# Altium schematic symbol library STA309A.SchLib: 1 symbol
Pins are listed as number, name and electrical type; pins without a type are passive.

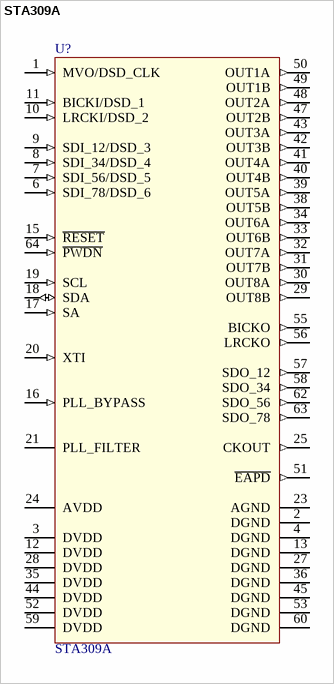
[diagram p0: symbol STA309A]

## STA309A
designator U?
Multi-channel digital audio processor with DDX®; Value: STA309A
footprint LQFP64_L (Thin QFP, 64-Leads, Body 10x10mm, Pitch 0.5mm, IPC High Density)
pins: 1 MVO/DSD_CLK (in), 2 DGND (power), 3 DVDD (power), 4 DGND (power), 6 SDI_78/DSD_6 (in), 7 SDI_56/DSD_5 (in), 8 SDI_34/DSD_4 (in), 9 SDI_12/DSD_3 (in), 10 LRCKI/DSD_2 (in), 11 BICKI/DSD_1 (in), 12 DVDD (power), 13 DGND (power), 15 ~{RESET} (in), 16 PLL_BYPASS (in), 17 SA (in), 18 SDA (io), 19 SCL (in), 20 XTI (in), 21 PLL_FILTER, 23 AGND (power), 24 AVDD (power), 25 CKOUT (out), 27 DGND (power), 28 DVDD (power), 29 OUT8B (out), 30 OUT8A (out), 31 OUT7B (out), 32 OUT7A (out), 33 OUT6B (out), 34 OUT6A (out), 35 DVDD (power), 36 DGND, 38 OUT5B (out), 39 OUT5A (out), 40 OUT4B (out), 41 OUT4A (out), 42 OUT3B (out), 43 OUT3A (out), 44 DVDD (power), 45 DGND (power), 47 OUT2B (out), 48 OUT2A (out), 49 OUT1B (out), 50 OUT1A (out), 51 ~{EAPD} (out), 52 DVDD, 53 DGND (power), 55 BICKO (out), 56 LRCKO (out), 57 SDO_12 (out), 58 SDO_34 (out), 59 DVDD, 60 DGND (power), 62 SDO_56 (out), 63 SDO_78 (out), 64 ~{PWDN} (in)